# EAGLE library part SAMD21G_MINI (library quadcopter_comp)
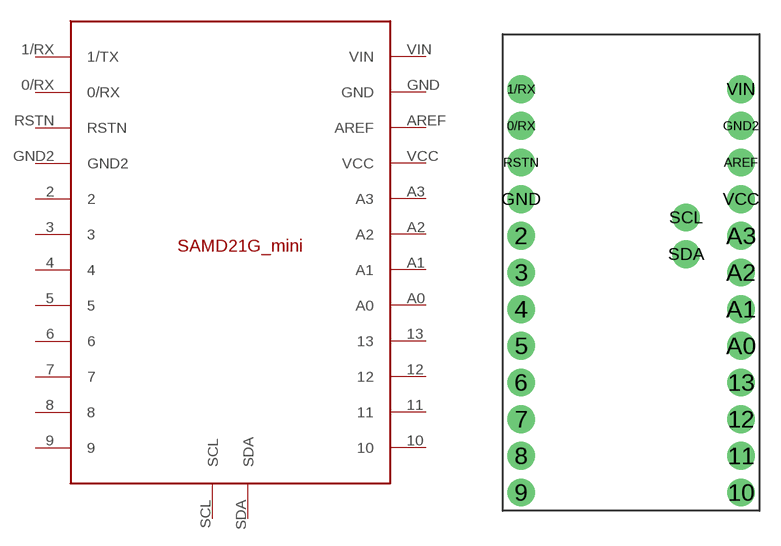
[diagram p0: symbol with the pads of SAMD21G-MINI; footprint SAMD21G-MINI]

Designator prefix -

## SAMD21G_MINI  [SAMD21G-MINI]
0/RX  0/RX
1/RX  1/TX
2  2
3  3
4  4
5  5
6  6
7  7
8  8
9  9
10  10
11  11
12  12
13  13
A0  A0
A1  A1
A2  A2
A3  A3
AREF  AREF
GND  GND
GND2  GND2
RSTN  RSTN
SCL  SCL
SDA  SDA
VCC  VCC
VIN  VIN

## Footprint SAMD21G-MINI (pad centres in mm)
drill 1 pad 1.93: 0/RX -7.62,10.16; 1/RX -7.62,12.7; 2 -7.62,2.54; 3 -7.62,0; 4 -7.62,-2.54; 5 -7.62,-5.08; 6 -7.62,-7.62; 7 -7.62,-10.16; 8 -7.62,-12.7; 9 -7.62,-15.24; 10 7.62,-15.24; 11 7.62,-12.7; 12 7.62,-10.16; 13 7.62,-7.62; A0 7.62,-5.08; A1 7.62,-2.54; A2 7.62,0; A3 7.62,2.54; AREF 7.62,7.62; GND -7.62,5.08; GND2 7.62,10.16; RSTN -7.62,7.62; SCL 3.81,3.81; SDA 3.81,1.27; VCC 7.62,5.08; VIN 7.62,12.7